# Altium integrated library Analog Devices Data Converters Digital-to-Analog Converters.IntLib: 2231 symbols (part 110 of 181)
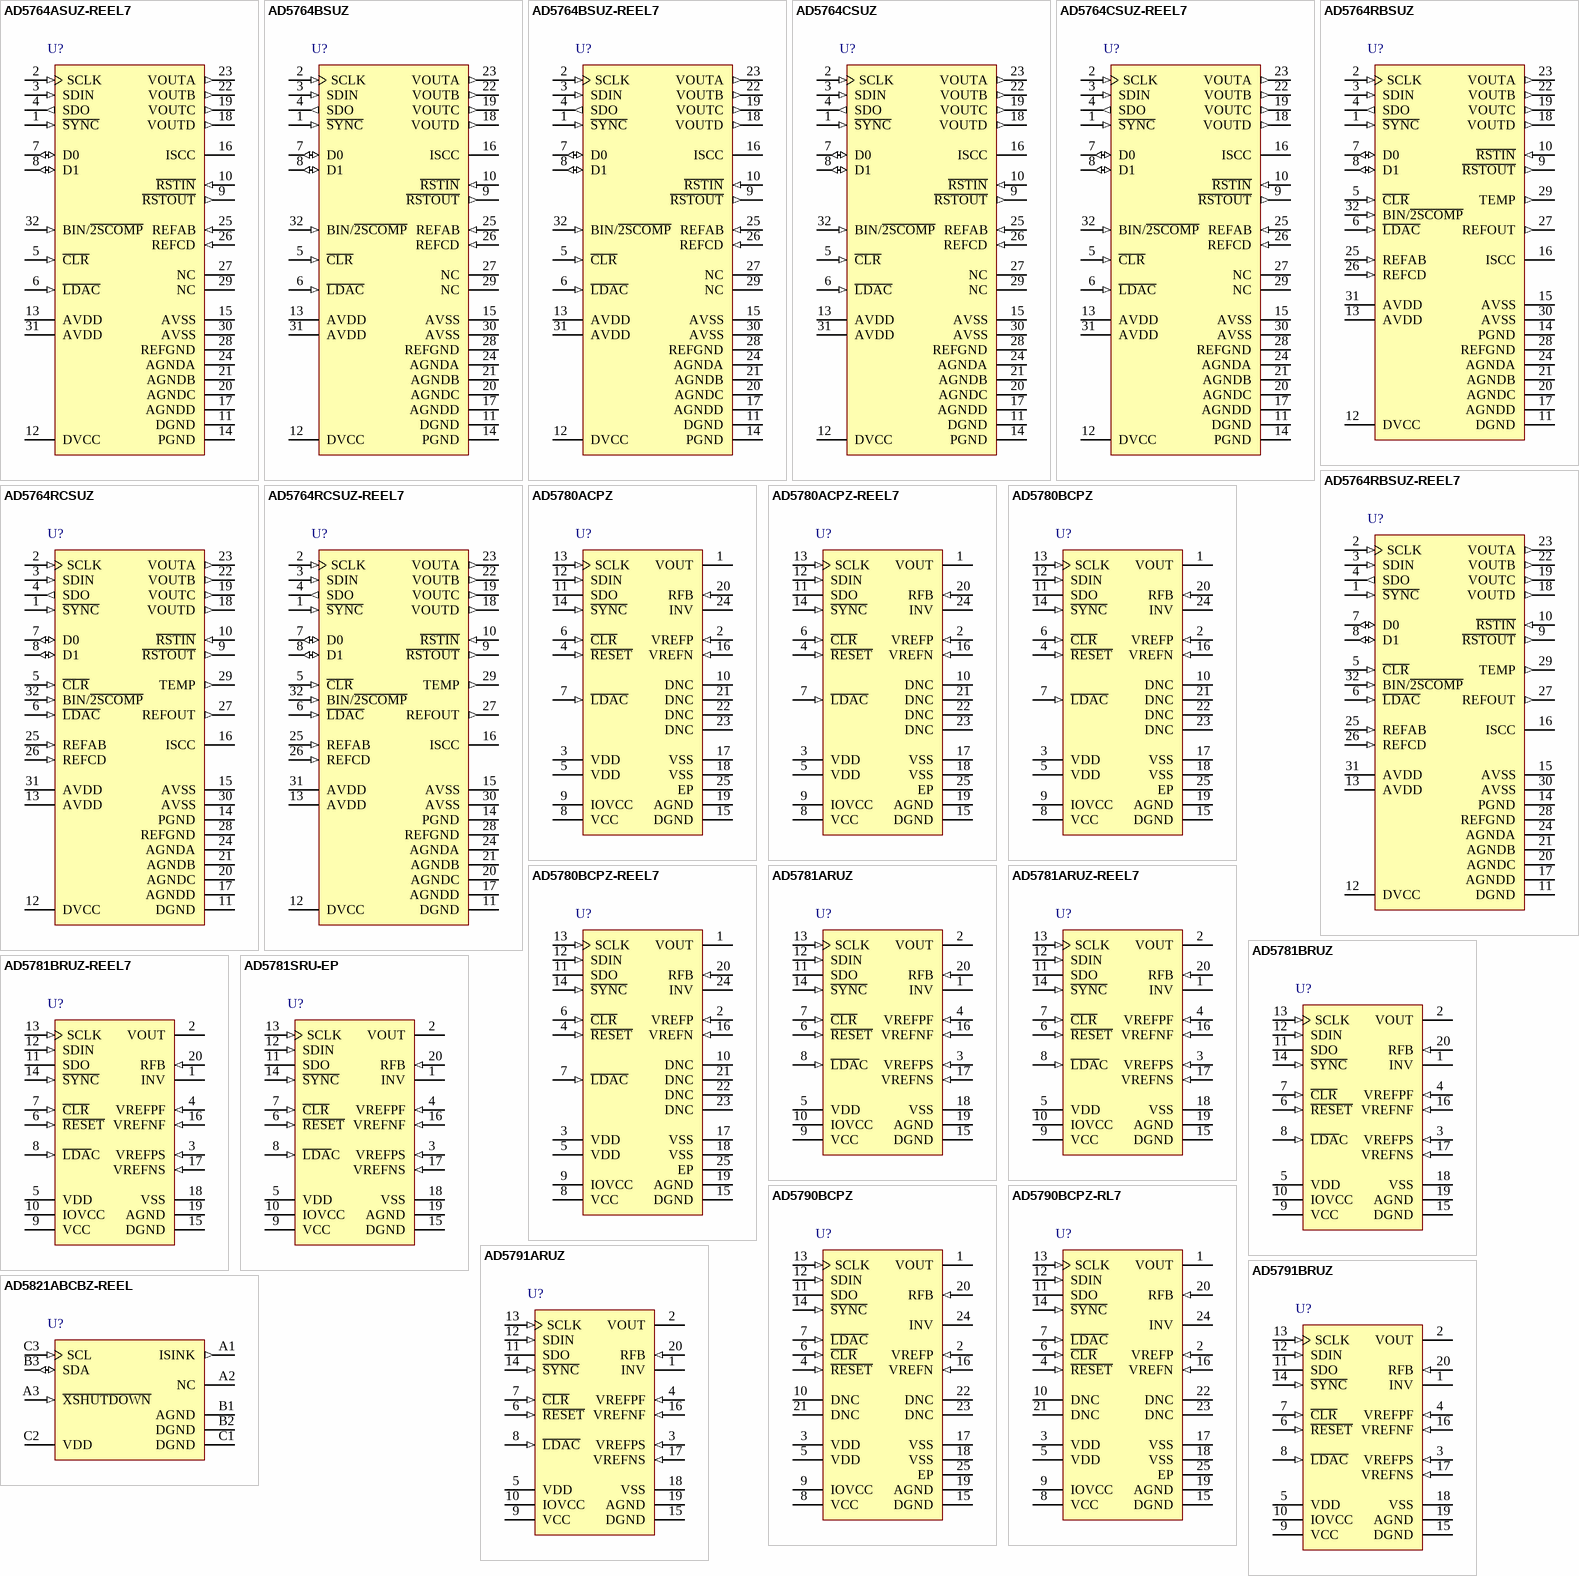
[diagram p223: symbols AD5764ASUZ-REEL7 to AD5821ABCBZ-REEL]

## AD5764RCSUZ
designator U?
16-Bit Bipolar Voltage Output Digital-to-Analog Converter with Serial Interface, -40 to +85 degC, SU-32-2, Pb-Free, Tray; Generic Part Number: AD5764R; Manufacturer: Analog Devices; PartNumber: AD5764RCSUZ; # DAC Outputs: 4; Max V+: 16.5V; Op Pwr Diss: 275mW; Resolution (Bits): 16; Settling Time: 8µs; Single Supply: No; DatasheetVersion: Rev.D; PackageVersion: 2004; PackageReference: SU-32-2; PackageDescription: 32-Lead Thin Plastic Quad Flat Package [TQFP]; Supplier 1: Digi-Key; Supplier Part Number 1: AD5764RCSUZ-ND; Supplier 2: Newark; Supplier Part Number 2: 34P3178; Supplier 3: Mouser; Supplier Part Number 3: 584-AD5764RCSUZ; Packing: Tray; RoHS: Y; Mounting Technology: Surface Mount; Code_JEDEC: MS-026-ABA; ComponentLink1Description: Manufacturer URL; ComponentLink1URL: http://www.analog.com/en/index.html; ComponentLink2Description: Datasheet; ComponentLink2URL: http://www.analog.com/static/imported-files/data_sheets/AD5764R.pdf; ComponentLink3Description: Package Specification; ComponentLink3URL: http://www.analog.com/static/imported-files/packages/6298531260360306615SU_32_2.pdf; ComponentLink4Description: Product URL; ComponentLink4URL: http://www.analog.com/en/digital-to-analog-converters/da-converters/ad5764r/products/product.html
footprint SU-32-2_N (Thin QFP, 32-Leads, Body 7x7mm, Pitch 0.8mm, IPC Medium Density)
footprint SU-32-2_L (Thin QFP, 32-Leads, Body 7x7mm, Pitch 0.8mm, IPC High Density)
footprint SU-32-2_M (Thin QFP, 32-Leads, Body 7x7mm, Pitch 0.8mm, IPC Low Density)
pins: 1 ~{SYNC} (in) "Active Low Input. This is the frame synchronization signal for the serial interface. While S\Y\N\C\ is low, data is transferred in on the falling edge of SCLK.", 2 SCLK (in) "Serial Clock Input. Data is clocked into the input shift register on the falling edge of SCLK. This operates at clock speeds of up to 30 MHz.", 3 SDIN (in) "Serial Data Input. Data must be valid on the falling edge of SCLK.", 4 SDO (out) "Serial Data Output. This pin is used to clock data from the serial register in daisy-chain or readback mode.", 5 ~{CLR} (in) "Negative Edge Triggered Input.1 Asserting this pin sets the data registers to 0x0000.", 6 ~{LDAC} (in) "Load DAC. This logic input is used to update the data registers and, consequently, the analog outputs. When tied permanently low, the addressed data register is updated on the rising edge of S\Y\N\C\. If L\D\A\C\ is held (See Datasheet)", 7 D0 (io) "Digital I/O Port. D0 form a digital I/O port. The user can set up these pins as inputs or outputs that are configurable and readable over the serial interface. When configured as inputs, these pins have weak internal (See Datasheet)", 8 D1 (io) "Digital I/O Port. D1 form a digital I/O port. The user can set up these pins as inputs or outputs that are configurable and readable over the serial interface. When configured as inputs, these pins have weak internal (See Datasheet)", 9 ~{RSTOUT} (out) "Reset Logic Output. This is the output from the on-chip voltage monitor used in the reset circuit. If desired, it can be used to control other system components.", 10 ~{RSTIN} (in) "Reset Logic Input. This input allows external access to the internal reset logic. Applying a Logic 0 to this input clamps the DAC outputs to 0 V. In normal operation, R\S\T\I\N\ should be tied to Logic 1. Register values (See Datasheet)", 11 DGND (power) "Digital Ground Pin.", 12 DVCC (power) "Digital Supply Pin. Voltage ranges from 2.7 V to 5.25 V.", 13 AVDD (power) "Positive Analog Supply Pins. Voltage ranges from 11.4 V to 16.5 V.", 14 PGND (power) "Ground Reference Point for Analog Circuitry.", 15 AVSS (power) "Negative Analog Supply Pins. Voltage ranges from -11.4 V to -16.5 V.", 16 ISCC "This pin is used in association with an optional external resistor to AGND to program the short-circuit current of the output amplifiers. Refer to the Design Features section for more information.", 17 AGNDD (power) "Ground Reference Pin for DAC D Output Amplifier.", 18 VOUTD (out) "Analog Output Voltage of DAC D. Buffered output with a nominal full-scale output range of +/-10 V. The output amplifier is capable of directly driving a 10 kohm, 200 pF load.", 19 VOUTC (out) "Analog Output Voltage of DAC C. Buffered output with a nominal full-scale output range of +/-10 V. The output amplifier is capable of directly driving a 10 kohm, 200 pF load.", 20 AGNDC (power) "Ground Reference Pin for DAC C Output Amplifier.", 21 AGNDB (power) "Ground Reference Pin for DAC B Output Amplifier.", 22 VOUTB (out) "Analog Output Voltage of DAC B. Buffered output with a nominal full-scale output range of +/-10 V. The output amplifier is capable of directly driving a 10 kohm, 200 pF load.", 23 VOUTA (out) "Analog Output Voltage of DAC A. Buffered output with a nominal full-scale output range of +/-10 V. The output amplifier is capable of directly driving a 10 kohm, 200 pF load.", 24 AGNDA (power) "Ground Reference Pin for DAC A Output Amplifier.", 25 REFAB (in) "External Reference Voltage Input for Channel A and Channel B. The reference input range is 1 V to 7 V, and it programs the full-scale output voltage. VREFIN = 5 V for specified performance.", 26 REFCD (in) "External Reference Voltage Input for Channel C and Channel D. The reference input range is 1 V to 7 V, and it programs the full-scale output voltage. VREFIN = 5 V for specified performance.", 27 REFOUT (out) "Reference Output. This is the reference output from the internal voltage reference. The internal reference is 5 V +/- 3 mV at 25 degC, with a reference temperature coefficient of 10 ppm/degC.", 28 REFGND (power) "Reference Ground Return for the Reference Generator and Buffers.", 29 TEMP (out) "This pin provides an output voltage proportional to temperature. The output voltage is 1.47 V typical at 25 degC die temperature; variation with temperature is 5 mV/degC.", 30 AVSS (power) "Negative Analog Supply Pins. Voltage ranges from -11.4 V to -16.5 V.", 31 AVDD (power) "Positive Analog Supply Pins. Voltage ranges from 11.4 V to 16.5 V.", 32 BIN/~{2SCOMP} (in) "This pin determines the DAC coding. This pin should be hardwired to either DVCC or DGND. When hardwired to DVCC, input coding is offset binary (see Table 7). When hardwired to DGND, input coding is twos complement (see Table (See Datasheet)"

## AD5764RCSUZ-REEL7
designator U?
16-Bit Bipolar Voltage Output Digital-to-Analog Converter with Serial Interface, -40 to +85 degC, SU-32-2, Pb-Free, Reel; Generic Part Number: AD5764R; Manufacturer: Analog Devices; PartNumber: AD5764RCSUZ-REEL7; # DAC Outputs: 4; Max V+: 16.5V; Op Pwr Diss: 275mW; Resolution (Bits): 16; Settling Time: 8µs; Single Supply: No; DatasheetVersion: Rev.D; PackageVersion: 2004; PackageReference: SU-32-2; PackageDescription: 32-Lead Thin Plastic Quad Flat Package [TQFP]; Supplier 1: Digi-Key; Supplier Part Number 1: AD5764RCSUZ-REEL7-ND; Supplier 2: Mouser; Supplier Part Number 2: 584-AD5764RCSUZ-R7; Packing: Reel; RoHS: Y; Mounting Technology: Surface Mount; Code_JEDEC: MS-026-ABA; ComponentLink1Description: Manufacturer URL; ComponentLink1URL: http://www.analog.com/en/index.html; ComponentLink2Description: Datasheet; ComponentLink2URL: http://www.analog.com/static/imported-files/data_sheets/AD5764R.pdf; ComponentLink3Description: Package Specification; ComponentLink3URL: http://www.analog.com/static/imported-files/packages/6298531260360306615SU_32_2.pdf; ComponentLink4Description: Product URL; ComponentLink4URL: http://www.analog.com/en/digital-to-analog-converters/da-converters/ad5764r/products/product.html
footprint SU-32-2_N (Thin QFP, 32-Leads, Body 7x7mm, Pitch 0.8mm, IPC Medium Density)
footprint SU-32-2_L (Thin QFP, 32-Leads, Body 7x7mm, Pitch 0.8mm, IPC High Density)
footprint SU-32-2_M (Thin QFP, 32-Leads, Body 7x7mm, Pitch 0.8mm, IPC Low Density)
pins: 1 ~{SYNC} (in) "Active Low Input. This is the frame synchronization signal for the serial interface. While S\Y\N\C\ is low, data is transferred in on the falling edge of SCLK.", 2 SCLK (in) "Serial Clock Input. Data is clocked into the input shift register on the falling edge of SCLK. This operates at clock speeds of up to 30 MHz.", 3 SDIN (in) "Serial Data Input. Data must be valid on the falling edge of SCLK.", 4 SDO (out) "Serial Data Output. This pin is used to clock data from the serial register in daisy-chain or readback mode.", 5 ~{CLR} (in) "Negative Edge Triggered Input.1 Asserting this pin sets the data registers to 0x0000.", 6 ~{LDAC} (in) "Load DAC. This logic input is used to update the data registers and, consequently, the analog outputs. When tied permanently low, the addressed data register is updated on the rising edge of S\Y\N\C\. If L\D\A\C\ is held (See Datasheet)", 7 D0 (io) "Digital I/O Port. D0 form a digital I/O port. The user can set up these pins as inputs or outputs that are configurable and readable over the serial interface. When configured as inputs, these pins have weak internal (See Datasheet)", 8 D1 (io) "Digital I/O Port. D1 form a digital I/O port. The user can set up these pins as inputs or outputs that are configurable and readable over the serial interface. When configured as inputs, these pins have weak internal (See Datasheet)", 9 ~{RSTOUT} (out) "Reset Logic Output. This is the output from the on-chip voltage monitor used in the reset circuit. If desired, it can be used to control other system components.", 10 ~{RSTIN} (in) "Reset Logic Input. This input allows external access to the internal reset logic. Applying a Logic 0 to this input clamps the DAC outputs to 0 V. In normal operation, R\S\T\I\N\ should be tied to Logic 1. Register values (See Datasheet)", 11 DGND (power) "Digital Ground Pin.", 12 DVCC (power) "Digital Supply Pin. Voltage ranges from 2.7 V to 5.25 V.", 13 AVDD (power) "Positive Analog Supply Pins. Voltage ranges from 11.4 V to 16.5 V.", 14 PGND (power) "Ground Reference Point for Analog Circuitry.", 15 AVSS (power) "Negative Analog Supply Pins. Voltage ranges from -11.4 V to -16.5 V.", 16 ISCC "This pin is used in association with an optional external resistor to AGND to program the short-circuit current of the output amplifiers. Refer to the Design Features section for more information.", 17 AGNDD (power) "Ground Reference Pin for DAC D Output Amplifier.", 18 VOUTD (out) "Analog Output Voltage of DAC D. Buffered output with a nominal full-scale output range of +/-10 V. The output amplifier is capable of directly driving a 10 kohm, 200 pF load.", 19 VOUTC (out) "Analog Output Voltage of DAC C. Buffered output with a nominal full-scale output range of +/-10 V. The output amplifier is capable of directly driving a 10 kohm, 200 pF load.", 20 AGNDC (power) "Ground Reference Pin for DAC C Output Amplifier.", 21 AGNDB (power) "Ground Reference Pin for DAC B Output Amplifier.", 22 VOUTB (out) "Analog Output Voltage of DAC B. Buffered output with a nominal full-scale output range of +/-10 V. The output amplifier is capable of directly driving a 10 kohm, 200 pF load.", 23 VOUTA (out) "Analog Output Voltage of DAC A. Buffered output with a nominal full-scale output range of +/-10 V. The output amplifier is capable of directly driving a 10 kohm, 200 pF load.", 24 AGNDA (power) "Ground Reference Pin for DAC A Output Amplifier.", 25 REFAB (in) "External Reference Voltage Input for Channel A and Channel B. The reference input range is 1 V to 7 V, and it programs the full-scale output voltage. VREFIN = 5 V for specified performance.", 26 REFCD (in) "External Reference Voltage Input for Channel C and Channel D. The reference input range is 1 V to 7 V, and it programs the full-scale output voltage. VREFIN = 5 V for specified performance.", 27 REFOUT (out) "Reference Output. This is the reference output from the internal voltage reference. The internal reference is 5 V +/- 3 mV at 25 degC, with a reference temperature coefficient of 10 ppm/degC.", 28 REFGND (power) "Reference Ground Return for the Reference Generator and Buffers.", 29 TEMP (out) "This pin provides an output voltage proportional to temperature. The output voltage is 1.47 V typical at 25 degC die temperature; variation with temperature is 5 mV/degC.", 30 AVSS (power) "Negative Analog Supply Pins. Voltage ranges from -11.4 V to -16.5 V.", 31 AVDD (power) "Positive Analog Supply Pins. Voltage ranges from 11.4 V to 16.5 V.", 32 BIN/~{2SCOMP} (in) "This pin determines the DAC coding. This pin should be hardwired to either DVCC or DGND. When hardwired to DVCC, input coding is offset binary (see Table 7). When hardwired to DGND, input coding is twos complement (see Table (See Datasheet)"

## AD5780ACPZ
designator U?
Single 18-Bit System Ready Voltage Output Digital-to-Analog Converter, + / -1 LSB INL, -40 to +125 degC, CP-24-5, Pb-Free, Tray; Generic Part Number: AD5780; Manufacturer: Analog Devices; PartNumber: AD5780ACPZ; # DAC Outputs: 1; Max V+: 16.5V; Resolution (Bits): 18; Settling Time: 2.5µs; Single Supply: No; DatasheetVersion: Rev.C; PackageVersion: 04-11-2012-B; PackageReference: CP-24-5; PackageDescription: 24-Lead Lead Frame Chip Scale Package [LFCSP_VQ] 4 x 5 mm Body, Very Thin Quad; Supplier 1: Digi-Key; Supplier Part Number 1: AD5780ACPZ-ND; Supplier 2: Farnell; Supplier Part Number 2: 2077686; Supplier 3: Newark; Supplier Part Number 3: 76T1804; Supplier 4: Mouser; Supplier Part Number 4: 584-AD5780ACPZ; Packing: Tray; RoHS: Y; Mounting Technology: Surface Mount; ComponentLink1Description: Manufacturer URL; ComponentLink1URL: http://www.analog.com/en/index.html; ComponentLink2Description: Datasheet; ComponentLink2URL: http://www.analog.com/static/imported-files/data_sheets/AD5780.pdf; ComponentLink3Description: Package Specification; ComponentLink3URL: http://www.analog.com/static/imported-files/packages/PKG_PDF/LFCSP(CP)/CP_24_5.pdf; ComponentLink4Description: Product URL; ComponentLink4URL: http://www.analog.com/en/digital-to-analog-converters/da-converters/ad5780/products/product.html
footprint CP-24-5_N (QFN, 24-Leads, Body 4x5mm, Pitch 0.5mm, Thermal Pad 2.65x3.65mm, IPC Medium Density)
footprint CP-24-5_L (QFN, 24-Leads, Body 4x5mm, Pitch 0.5mm, Thermal Pad 2.65x3.65mm, IPC High Density)
footprint CP-24-5_M (QFN, 24-Leads, Body 4x5mm, Pitch 0.5mm, Thermal Pad 2.65x3.65mm, IPC Low Density)
pins: 1 VOUT (hiz) "Analog Output Voltage.", 2 VREFP (in) "Positive Reference Voltage Input. A voltage in the range of 5 V to VDD - 2.5 V can be connected to this pin.", 3 VDD (power) "Positive Analog Supply Connection. A voltage in the range of 7.5 V to 16.5 V can be connected to this pin. VDD must be decoupled to AGND.", 4 ~{RESET} (in) "Active Low Reset. Asserting this pin returns the AD5780 to its power-on status.", 5 VDD (power) "Positive Analog Supply Connection. A voltage in the range of 7.5 V to 16.5 V can be connected to this pin. VDD must be decoupled to AGND.", 6 ~{CLR} (in) "Active Low Input. Asserting this pin sets the DAC register to a user defined value (see Table 12) and updates the DAC output. The output value depends on the DAC register coding that is being used, either binary or twos (See Datasheet)", 7 ~{LDAC} (in) "Active Low Load DAC Logic Input. This pin is used to update the DAC register and, consequently, the analog output. When tied permanently low, the output is updated on the rising edge of S\Y\N\C\. If L\D\A\C\ is held high (See Datasheet)", 8 VCC (power) "Digital Supply. Voltage range is from 2.7 V to 5.5 V. VCC should be decoupled to DGND.", 9 IOVCC (power) "Digital Interface Supply. Digital threshold levels are referenced to the voltage applied to this pin. Voltage range is from 1.71 V to 5.5 V.", 10 DNC "Do Not Connect. Do not connect to these pins.", 11 SDO (hiz) "Serial Data Output.", 12 SDIN (in) "Serial Data Input. This device has a 24-bit input shift register. Data is clocked into the register on the falling edge of the serial clock input.", 13 SCLK (in) "Serial Clock Input. Data is clocked into the input shift register on the falling edge of the serial clock input. Data can be transferred at rates of up to 35 MHz.", 14 ~{SYNC} (in) "Level Triggered Control Input (Active Low). This is the frame synchronization signal for the input data. When S\Y\N\C\ goes low, it enables the input shift register, and data is then transferred in on the falling edges of (See Datasheet)", 15 DGND (power) "Ground Reference Pin for Digital Circuitry.", 16 VREFN (in) "Negative Reference Voltage Input.", 17 VSS (power) "Negative Analog Supply Connection. A voltage in the range of -16.5 V to -2.5 V can be connected to this pin. VSS must be decoupled to AGND.", 18 VSS (power) "Negative Analog Supply Connection. A voltage in the range of -16.5 V to -2.5 V can be connected to this pin. VSS must be decoupled to AGND.", 19 AGND (power) "Ground Reference Pin for Analog Circuitry.", 20 RFB (in) "Feedback Connection for External Amplifier. See the AD5780 Features section for further details.", 21 DNC "Do Not Connect. Do not connect to these pins.", 22 DNC "Do Not Connect. Do not connect to these pins.", 23 DNC "Do Not Connect. Do not connect to these pins.", 24 INV "Inverting Input Connection for External Amplifier. See the AD5780 Features section for further details.", 25 EP (power) "Negative Analog Supply Connection (VSS). A voltage in the range of -16.5 V to -2.5 V can be connected to this pin. VSS must be decoupled to AGND. The paddle can be left electrically unconnected provided that a supply (See Datasheet)"

## AD5780ACPZ-REEL7
designator U?
Single 18-Bit System Ready Voltage Output Digital-to-Analog Converter, + / -1 LSB INL, -40 to +125 degC, CP-24-5, Pb-Free, Reel; Generic Part Number: AD5780; Manufacturer: Analog Devices; PartNumber: AD5780ACPZ-REEL7; # DAC Outputs: 1; Max V+: 16.5V; Resolution (Bits): 18; Settling Time: 2.5µs; Single Supply: No; DatasheetVersion: Rev.C; PackageVersion: 04-11-2012-B; PackageReference: CP-24-5; PackageDescription: 24-Lead Lead Frame Chip Scale Package [LFCSP_VQ] 4 x 5 mm Body, Very Thin Quad; Supplier 1: Digi-Key; Supplier Part Number 1: AD5780ACPZ-REEL7-ND; Supplier 2: Mouser; Supplier Part Number 2: 584-AD5780ACPZ-R7; Packing: Reel; RoHS: Y; Mounting Technology: Surface Mount; ComponentLink1Description: Manufacturer URL; ComponentLink1URL: http://www.analog.com/en/index.html; ComponentLink2Description: Datasheet; ComponentLink2URL: http://www.analog.com/static/imported-files/data_sheets/AD5780.pdf; ComponentLink3Description: Package Specification; ComponentLink3URL: http://www.analog.com/static/imported-files/packages/PKG_PDF/LFCSP(CP)/CP_24_5.pdf; ComponentLink4Description: Product URL; ComponentLink4URL: http://www.analog.com/en/digital-to-analog-converters/da-converters/ad5780/products/product.html
footprint CP-24-5_N (QFN, 24-Leads, Body 4x5mm, Pitch 0.5mm, Thermal Pad 2.65x3.65mm, IPC Medium Density)
footprint CP-24-5_L (QFN, 24-Leads, Body 4x5mm, Pitch 0.5mm, Thermal Pad 2.65x3.65mm, IPC High Density)
footprint CP-24-5_M (QFN, 24-Leads, Body 4x5mm, Pitch 0.5mm, Thermal Pad 2.65x3.65mm, IPC Low Density)
pins: 1 VOUT (hiz) "Analog Output Voltage.", 2 VREFP (in) "Positive Reference Voltage Input. A voltage in the range of 5 V to VDD - 2.5 V can be connected to this pin.", 3 VDD (power) "Positive Analog Supply Connection. A voltage in the range of 7.5 V to 16.5 V can be connected to this pin. VDD must be decoupled to AGND.", 4 ~{RESET} (in) "Active Low Reset. Asserting this pin returns the AD5780 to its power-on status.", 5 VDD (power) "Positive Analog Supply Connection. A voltage in the range of 7.5 V to 16.5 V can be connected to this pin. VDD must be decoupled to AGND.", 6 ~{CLR} (in) "Active Low Input. Asserting this pin sets the DAC register to a user defined value (see Table 12) and updates the DAC output. The output value depends on the DAC register coding that is being used, either binary or twos (See Datasheet)", 7 ~{LDAC} (in) "Active Low Load DAC Logic Input. This pin is used to update the DAC register and, consequently, the analog output. When tied permanently low, the output is updated on the rising edge of S\Y\N\C\. If L\D\A\C\ is held high (See Datasheet)", 8 VCC (power) "Digital Supply. Voltage range is from 2.7 V to 5.5 V. VCC should be decoupled to DGND.", 9 IOVCC (power) "Digital Interface Supply. Digital threshold levels are referenced to the voltage applied to this pin. Voltage range is from 1.71 V to 5.5 V.", 10 DNC "Do Not Connect. Do not connect to these pins.", 11 SDO (hiz) "Serial Data Output.", 12 SDIN (in) "Serial Data Input. This device has a 24-bit input shift register. Data is clocked into the register on the falling edge of the serial clock input.", 13 SCLK (in) "Serial Clock Input. Data is clocked into the input shift register on the falling edge of the serial clock input. Data can be transferred at rates of up to 35 MHz.", 14 ~{SYNC} (in) "Level Triggered Control Input (Active Low). This is the frame synchronization signal for the input data. When S\Y\N\C\ goes low, it enables the input shift register, and data is then transferred in on the falling edges of (See Datasheet)", 15 DGND (power) "Ground Reference Pin for Digital Circuitry.", 16 VREFN (in) "Negative Reference Voltage Input.", 17 VSS (power) "Negative Analog Supply Connection. A voltage in the range of -16.5 V to -2.5 V can be connected to this pin. VSS must be decoupled to AGND.", 18 VSS (power) "Negative Analog Supply Connection. A voltage in the range of -16.5 V to -2.5 V can be connected to this pin. VSS must be decoupled to AGND.", 19 AGND (power) "Ground Reference Pin for Analog Circuitry.", 20 RFB (in) "Feedback Connection for External Amplifier. See the AD5780 Features section for further details.", 21 DNC "Do Not Connect. Do not connect to these pins.", 22 DNC "Do Not Connect. Do not connect to these pins.", 23 DNC "Do Not Connect. Do not connect to these pins.", 24 INV "Inverting Input Connection for External Amplifier. See the AD5780 Features section for further details.", 25 EP (power) "Negative Analog Supply Connection (VSS). A voltage in the range of -16.5 V to -2.5 V can be connected to this pin. VSS must be decoupled to AGND. The paddle can be left electrically unconnected provided that a supply (See Datasheet)"

## AD5780BCPZ
designator U?
Single 18-Bit System Ready Voltage Output Digital-to-Analog Converter, + / -1 LSB INL, -40 to +125 degC, CP-24-5, Pb-Free, Tray; Generic Part Number: AD5780; Manufacturer: Analog Devices; PartNumber: AD5780BCPZ; # DAC Outputs: 1; Max V+: 16.5V; Resolution (Bits): 18; Settling Time: 2.5µs; Single Supply: No; DatasheetVersion: Rev.C; PackageVersion: 04-11-2012-B; PackageReference: CP-24-5; PackageDescription: 24-Lead Lead Frame Chip Scale Package [LFCSP_VQ] 4 x 5 mm Body, Very Thin Quad; Supplier 1: Digi-Key; Supplier Part Number 1: AD5780BCPZ-ND; Supplier 2: Farnell; Supplier Part Number 2: 2077687; Supplier 3: Newark; Supplier Part Number 3: 76T1806; Supplier 4: Mouser; Supplier Part Number 4: 584-AD5780BCPZ; Packing: Tray; RoHS: Y; Mounting Technology: Surface Mount; ComponentLink1Description: Manufacturer URL; ComponentLink1URL: http://www.analog.com/en/index.html; ComponentLink2Description: Datasheet; ComponentLink2URL: http://www.analog.com/static/imported-files/data_sheets/AD5780.pdf; ComponentLink3Description: Package Specification; ComponentLink3URL: http://www.analog.com/static/imported-files/packages/PKG_PDF/LFCSP(CP)/CP_24_5.pdf; ComponentLink4Description: Product URL; ComponentLink4URL: http://www.analog.com/en/digital-to-analog-converters/da-converters/ad5780/products/product.html
footprint CP-24-5_N (QFN, 24-Leads, Body 4x5mm, Pitch 0.5mm, Thermal Pad 2.65x3.65mm, IPC Medium Density)
footprint CP-24-5_L (QFN, 24-Leads, Body 4x5mm, Pitch 0.5mm, Thermal Pad 2.65x3.65mm, IPC High Density)
footprint CP-24-5_M (QFN, 24-Leads, Body 4x5mm, Pitch 0.5mm, Thermal Pad 2.65x3.65mm, IPC Low Density)
pins: 1 VOUT (hiz) "Analog Output Voltage.", 2 VREFP (in) "Positive Reference Voltage Input. A voltage in the range of 5 V to VDD - 2.5 V can be connected to this pin.", 3 VDD (power) "Positive Analog Supply Connection. A voltage in the range of 7.5 V to 16.5 V can be connected to this pin. VDD must be decoupled to AGND.", 4 ~{RESET} (in) "Active Low Reset. Asserting this pin returns the AD5780 to its power-on status.", 5 VDD (power) "Positive Analog Supply Connection. A voltage in the range of 7.5 V to 16.5 V can be connected to this pin. VDD must be decoupled to AGND.", 6 ~{CLR} (in) "Active Low Input. Asserting this pin sets the DAC register to a user defined value (see Table 12) and updates the DAC output. The output value depends on the DAC register coding that is being used, either binary or twos (See Datasheet)", 7 ~{LDAC} (in) "Active Low Load DAC Logic Input. This pin is used to update the DAC register and, consequently, the analog output. When tied permanently low, the output is updated on the rising edge of S\Y\N\C\. If L\D\A\C\ is held high (See Datasheet)", 8 VCC (power) "Digital Supply. Voltage range is from 2.7 V to 5.5 V. VCC should be decoupled to DGND.", 9 IOVCC (power) "Digital Interface Supply. Digital threshold levels are referenced to the voltage applied to this pin. Voltage range is from 1.71 V to 5.5 V.", 10 DNC "Do Not Connect. Do not connect to these pins.", 11 SDO (hiz) "Serial Data Output.", 12 SDIN (in) "Serial Data Input. This device has a 24-bit input shift register. Data is clocked into the register on the falling edge of the serial clock input.", 13 SCLK (in) "Serial Clock Input. Data is clocked into the input shift register on the falling edge of the serial clock input. Data can be transferred at rates of up to 35 MHz.", 14 ~{SYNC} (in) "Level Triggered Control Input (Active Low). This is the frame synchronization signal for the input data. When S\Y\N\C\ goes low, it enables the input shift register, and data is then transferred in on the falling edges of (See Datasheet)", 15 DGND (power) "Ground Reference Pin for Digital Circuitry.", 16 VREFN (in) "Negative Reference Voltage Input.", 17 VSS (power) "Negative Analog Supply Connection. A voltage in the range of -16.5 V to -2.5 V can be connected to this pin. VSS must be decoupled to AGND.", 18 VSS (power) "Negative Analog Supply Connection. A voltage in the range of -16.5 V to -2.5 V can be connected to this pin. VSS must be decoupled to AGND.", 19 AGND (power) "Ground Reference Pin for Analog Circuitry.", 20 RFB (in) "Feedback Connection for External Amplifier. See the AD5780 Features section for further details.", 21 DNC "Do Not Connect. Do not connect to these pins.", 22 DNC "Do Not Connect. Do not connect to these pins.", 23 DNC "Do Not Connect. Do not connect to these pins.", 24 INV "Inverting Input Connection for External Amplifier. See the AD5780 Features section for further details.", 25 EP (power) "Negative Analog Supply Connection (VSS). A voltage in the range of -16.5 V to -2.5 V can be connected to this pin. VSS must be decoupled to AGND. The paddle can be left electrically unconnected provided that a supply (See Datasheet)"

## AD5780BCPZ-REEL7
designator U?
Single 8-Bit System Ready Voltage Output Digital-to-Analog Converter, + / -1 LSB INL, -40 to +125 degC, CP-24-5, Pb-Free, Reel; Generic Part Number: AD5780; Manufacturer: Analog Devices; PartNumber: AD5780BCPZ-REEL7; # DAC Outputs: 1; Max V+: 16.5V; Resolution (Bits): 18; Settling Time: 2.5µs; Single Supply: No; DatasheetVersion: Rev.C; PackageVersion: 04-11-2012-B; PackageReference: CP-24-5; PackageDescription: 24-Lead Lead Frame Chip Scale Package [LFCSP_VQ] 4 x 5 mm Body, Very Thin Quad; Supplier 1: Digi-Key; Supplier Part Number 1: AD5780BCPZ-REEL7-ND; Supplier 2: Mouser; Supplier Part Number 2: 584-AD5780BCPZ-R7; Packing: Reel; RoHS: Y; Mounting Technology: Surface Mount; ComponentLink1Description: Manufacturer URL; ComponentLink1URL: http://www.analog.com/en/index.html; ComponentLink2Description: Datasheet; ComponentLink2URL: http://www.analog.com/static/imported-files/data_sheets/AD5780.pdf; ComponentLink3Description: Package Specification; ComponentLink3URL: http://www.analog.com/static/imported-files/packages/PKG_PDF/LFCSP(CP)/CP_24_5.pdf; ComponentLink4Description: Product URL; ComponentLink4URL: http://www.analog.com/en/digital-to-analog-converters/da-converters/ad5780/products/product.html
footprint CP-24-5_N (QFN, 24-Leads, Body 4x5mm, Pitch 0.5mm, Thermal Pad 2.65x3.65mm, IPC Medium Density)
footprint CP-24-5_L (QFN, 24-Leads, Body 4x5mm, Pitch 0.5mm, Thermal Pad 2.65x3.65mm, IPC High Density)
footprint CP-24-5_M (QFN, 24-Leads, Body 4x5mm, Pitch 0.5mm, Thermal Pad 2.65x3.65mm, IPC Low Density)
pins: 1 VOUT (hiz) "Analog Output Voltage.", 2 VREFP (in) "Positive Reference Voltage Input. A voltage in the range of 5 V to VDD - 2.5 V can be connected to this pin.", 3 VDD (power) "Positive Analog Supply Connection. A voltage in the range of 7.5 V to 16.5 V can be connected to this pin. VDD must be decoupled to AGND.", 4 ~{RESET} (in) "Active Low Reset. Asserting this pin returns the AD5780 to its power-on status.", 5 VDD (power) "Positive Analog Supply Connection. A voltage in the range of 7.5 V to 16.5 V can be connected to this pin. VDD must be decoupled to AGND.", 6 ~{CLR} (in) "Active Low Input. Asserting this pin sets the DAC register to a user defined value (see Table 12) and updates the DAC output. The output value depends on the DAC register coding that is being used, either binary or twos (See Datasheet)", 7 ~{LDAC} (in) "Active Low Load DAC Logic Input. This pin is used to update the DAC register and, consequently, the analog output. When tied permanently low, the output is updated on the rising edge of S\Y\N\C\. If L\D\A\C\ is held high (See Datasheet)", 8 VCC (power) "Digital Supply. Voltage range is from 2.7 V to 5.5 V. VCC should be decoupled to DGND.", 9 IOVCC (power) "Digital Interface Supply. Digital threshold levels are referenced to the voltage applied to this pin. Voltage range is from 1.71 V to 5.5 V.", 10 DNC "Do Not Connect. Do not connect to these pins.", 11 SDO (hiz) "Serial Data Output.", 12 SDIN (in) "Serial Data Input. This device has a 24-bit input shift register. Data is clocked into the register on the falling edge of the serial clock input.", 13 SCLK (in) "Serial Clock Input. Data is clocked into the input shift register on the falling edge of the serial clock input. Data can be transferred at rates of up to 35 MHz.", 14 ~{SYNC} (in) "Level Triggered Control Input (Active Low). This is the frame synchronization signal for the input data. When S\Y\N\C\ goes low, it enables the input shift register, and data is then transferred in on the falling edges of (See Datasheet)", 15 DGND (power) "Ground Reference Pin for Digital Circuitry.", 16 VREFN (in) "Negative Reference Voltage Input.", 17 VSS (power) "Negative Analog Supply Connection. A voltage in the range of -16.5 V to -2.5 V can be connected to this pin. VSS must be decoupled to AGND.", 18 VSS (power) "Negative Analog Supply Connection. A voltage in the range of -16.5 V to -2.5 V can be connected to this pin. VSS must be decoupled to AGND.", 19 AGND (power) "Ground Reference Pin for Analog Circuitry.", 20 RFB (in) "Feedback Connection for External Amplifier. See the AD5780 Features section for further details.", 21 DNC "Do Not Connect. Do not connect to these pins.", 22 DNC "Do Not Connect. Do not connect to these pins.", 23 DNC "Do Not Connect. Do not connect to these pins.", 24 INV "Inverting Input Connection for External Amplifier. See the AD5780 Features section for further details.", 25 EP (power) "Negative Analog Supply Connection (VSS). A voltage in the range of -16.5 V to -2.5 V can be connected to this pin. VSS must be decoupled to AGND. The paddle can be left electrically unconnected provided that a supply (See Datasheet)"

## AD5781ARUZ
designator U?
Single 18-Bit Voltage Output Digital-to-Analog Converter, + / -0.5 LSB INL DNL, -40 to +125 degC, RU-20, Pb-Free, Reel; Generic Part Number: AD5781; Manufacturer: Analog Devices; PartNumber: AD5781ARUZ; # DAC Outputs: 1; Max V+: 33V; Op Pwr Diss: 120mW; Packing: Tube; Resolution (Bits): 18; Settling Time: 1µs; Single Supply: No; DatasheetVersion: Rev.C; PackageVersion: 2000; PackageReference: RU-20; PackageDescription: 20-Lead Thin Shrink Small Outline Package [TSSOP]; Supplier 1: Digi-Key; Supplier Part Number 1: AD5781ARUZ-ND; Supplier 2: Farnell; Supplier Part Number 2: 1843652; Supplier 3: Newark; Supplier Part Number 3: 83R9355; Supplier 4: Mouser; Supplier Part Number 4: 584-AD5781ARUZ; RoHS: Y; Mounting Technology: Surface Mount; Code_JEDEC: MO-153AC; ComponentLink1Description: Manufacturer URL; ComponentLink1URL: http://www.analog.com/en/index.html; ComponentLink2Description: Datasheet; ComponentLink2URL: http://www.analog.com/static/imported-files/data_sheets/AD5781.pdf; ComponentLink3Description: Package Specification; ComponentLink3URL: http://www.analog.com/static/imported-files/packages/364515793657813558433715854054607941441RU20.pdf; ComponentLink4Description: Product URL; ComponentLink4URL: http://www.analog.com/en/digital-to-analog-converters/da-converters/ad5781/products/product.html
footprint RU-20_N (TSOP, 20-Leads, Body 6.5x4.4mm, Pitch 0.65mm, IPC Medium Density)
footprint RU-20_L (TSOP, 20-Leads, Body 6.5x4.4mm, Pitch 0.65mm, IPC High Density)
footprint RU-20_M (TSOP, 20-Leads, Body 6.5x4.4mm, Pitch 0.65mm, IPC Low Density)
pins: 1 INV "Connection to Inverting Input of External Amplifier. See the AD5781 Features section for further details.", 2 VOUT (hiz) "Analog Output Voltage.", 3 VREFPS (in) "Positive Reference Sense Voltage Input. A voltage range of 5 V to VDD - 2.5 V can be connected. A unity gain amplifier must be connected at this pin, in conjunction with the VREFPF pin. See the AD5781 Features section for (See Datasheet)", 4 VREFPF (in) "Positive Reference Force Voltage Input. A voltage range of 5 V to VDD - 2.5 V can be connected. A unity gain amplifier must be connected at these pin, in conjunction with the VREFPS pin. See AD5781 Features section for (See Datasheet)", 5 VDD (power) "Positive Analog Supply Connection. A voltage range of 7.5 V to 16.5 V can be connected. VDD should be decoupled to AGND.", 6 ~{RESET} (in) "Active Low Reset Logic Input Pin. Asserting this pin returns the AD5781 to its power-on status.", 7 ~{CLR} (in) "Active Low Clear Logic Input Pin. Asserting this pin sets the DAC register to a user defined value (see Table 13) and updates the DAC output. The output value depends on the DAC register coding that is being used, either (See Datasheet)", 8 ~{LDA}C (in) "Active Low Load DAC Logic Input Pin. This is used to update the DAC register and, consequently, the analog output. When tied permanently low, the output is updated on the rising edge of S\Y\N\C\. If L\D\A\C\ is held high (See Datasheet)", 9 VCC (power) "Digital Supply Connection. A voltage in the range of 2.7 V to 5.5 V can be connected. VCC should be decoupled to DGND.", 10 IOVCC (power) "Digital Interface Supply Pin. Digital threshold levels are referenced to the voltage applied to this pin. A voltage range of 1.71 V to 5.5 V can be connected. IOVCC should not be allowed to exceed VCC.", 11 SDO (hiz) "Serial Data Output Pin. Data is clocked out on the rising edge of the serial clock input.", 12 SDIN (in) "Serial Data Input Pin. This device has a 24-bit shift register. Data is clocked into the register on the falling edge of the serial clock input.", 13 SCLK (in) "Serial Clock Input. Data is clocked into the input shift register on the falling edge of the serial clock input. Data can be transferred at clock rates of up to 35 MHz.", 14 ~{SYNC} (in) "Active Low Digital Interface Synchronization Input Pin. This is the frame synchronization signal for the input data. When S\Y\N\C\ is low, it enables the input shift register, and data is then transferred in on the falling (See Datasheet)", 15 DGND (power) "Ground Reference Pin for Digital Circuitry.", 16 VREFNF (in) "Negative Reference Force Voltage Input. A voltage range of VSS + 2.5 V to 0 V can be connected. A unity gain amplifier must be connected at this pin, in conjunction with the VREFNS pin. See the AD5781 Features section for (See Datasheet)", 17 VREFNS (in) "Negative Reference Sense Voltage Input. A voltage range of VSS + 2.5 V to 0 V can be connected. A unity gain amplifier must be connected at these pin, in conjunction with the VREFNF pin. See the AD5781 Features section for (See Datasheet)", 18 VSS (power) "Negative Analog Supply Connection. A voltage range of -16.5 V to -2.5 V can be connected. VSS should be decoupled to AGND.", 19 AGND (power) "Ground Reference Pin for Analog Circuitry.", 20 RFB (in) "Feedback Connection for External Amplifier. See the AD5781 Features section for further details."

## AD5781ARUZ-REEL7
designator U?
Single 18-Bit Voltage Output Digital-to-Analog Converter, + / -0.5 LSB INL DNL, -40 to +125 degC, RU-20, Pb-Free, Reel; Generic Part Number: AD5781; Manufacturer: Analog Devices; PartNumber: AD5781ARUZ-REEL7; # DAC Outputs: 1; Max V+: 33V; Op Pwr Diss: 120mW; Resolution (Bits): 18; Settling Time: 1µs; Single Supply: No; DatasheetVersion: Rev.C; PackageVersion: 2000; PackageReference: RU-20; PackageDescription: 20-Lead Thin Shrink Small Outline Package [TSSOP]; Supplier 1: Digi-Key; Supplier Part Number 1: AD5781ARUZ-REEL7-ND; Supplier 2: Newark; Supplier Part Number 2: 83R9356; Supplier 3: Mouser; Supplier Part Number 3: 584-AD5781ARUZ-R7; Packing: Reel; RoHS: Y; Mounting Technology: Surface Mount; Code_JEDEC: MO-153AC; ComponentLink1Description: Manufacturer URL; ComponentLink1URL: http://www.analog.com/en/index.html; ComponentLink2Description: Datasheet; ComponentLink2URL: http://www.analog.com/static/imported-files/data_sheets/AD5781.pdf; ComponentLink3Description: Package Specification; ComponentLink3URL: http://www.analog.com/static/imported-files/packages/364515793657813558433715854054607941441RU20.pdf; ComponentLink4Description: Product URL; ComponentLink4URL: http://www.analog.com/en/digital-to-analog-converters/da-converters/ad5781/products/product.html
footprint RU-20_N (TSOP, 20-Leads, Body 6.5x4.4mm, Pitch 0.65mm, IPC Medium Density)
footprint RU-20_L (TSOP, 20-Leads, Body 6.5x4.4mm, Pitch 0.65mm, IPC High Density)
footprint RU-20_M (TSOP, 20-Leads, Body 6.5x4.4mm, Pitch 0.65mm, IPC Low Density)
pins: 1 INV "Connection to Inverting Input of External Amplifier. See the AD5781 Features section for further details.", 2 VOUT (hiz) "Analog Output Voltage.", 3 VREFPS (in) "Positive Reference Sense Voltage Input. A voltage range of 5 V to VDD - 2.5 V can be connected. A unity gain amplifier must be connected at this pin, in conjunction with the VREFPF pin. See the AD5781 Features section for (See Datasheet)", 4 VREFPF (in) "Positive Reference Force Voltage Input. A voltage range of 5 V to VDD - 2.5 V can be connected. A unity gain amplifier must be connected at these pin, in conjunction with the VREFPS pin. See AD5781 Features section for (See Datasheet)", 5 VDD (power) "Positive Analog Supply Connection. A voltage range of 7.5 V to 16.5 V can be connected. VDD should be decoupled to AGND.", 6 ~{RESET} (in) "Active Low Reset Logic Input Pin. Asserting this pin returns the AD5781 to its power-on status.", 7 ~{CLR} (in) "Active Low Clear Logic Input Pin. Asserting this pin sets the DAC register to a user defined value (see Table 13) and updates the DAC output. The output value depends on the DAC register coding that is being used, either (See Datasheet)", 8 ~{LDA}C (in) "Active Low Load DAC Logic Input Pin. This is used to update the DAC register and, consequently, the analog output. When tied permanently low, the output is updated on the rising edge of S\Y\N\C\. If L\D\A\C\ is held high (See Datasheet)", 9 VCC (power) "Digital Supply Connection. A voltage in the range of 2.7 V to 5.5 V can be connected. VCC should be decoupled to DGND.", 10 IOVCC (power) "Digital Interface Supply Pin. Digital threshold levels are referenced to the voltage applied to this pin. A voltage range of 1.71 V to 5.5 V can be connected. IOVCC should not be allowed to exceed VCC.", 11 SDO (hiz) "Serial Data Output Pin. Data is clocked out on the rising edge of the serial clock input.", 12 SDIN (in) "Serial Data Input Pin. This device has a 24-bit shift register. Data is clocked into the register on the falling edge of the serial clock input.", 13 SCLK (in) "Serial Clock Input. Data is clocked into the input shift register on the falling edge of the serial clock input. Data can be transferred at clock rates of up to 35 MHz.", 14 ~{SYNC} (in) "Active Low Digital Interface Synchronization Input Pin. This is the frame synchronization signal for the input data. When S\Y\N\C\ is low, it enables the input shift register, and data is then transferred in on the falling (See Datasheet)", 15 DGND (power) "Ground Reference Pin for Digital Circuitry.", 16 VREFNF (in) "Negative Reference Force Voltage Input. A voltage range of VSS + 2.5 V to 0 V can be connected. A unity gain amplifier must be connected at this pin, in conjunction with the VREFNS pin. See the AD5781 Features section for (See Datasheet)", 17 VREFNS (in) "Negative Reference Sense Voltage Input. A voltage range of VSS + 2.5 V to 0 V can be connected. A unity gain amplifier must be connected at these pin, in conjunction with the VREFNF pin. See the AD5781 Features section for (See Datasheet)", 18 VSS (power) "Negative Analog Supply Connection. A voltage range of -16.5 V to -2.5 V can be connected. VSS should be decoupled to AGND.", 19 AGND (power) "Ground Reference Pin for Analog Circuitry.", 20 RFB (in) "Feedback Connection for External Amplifier. See the AD5781 Features section for further details."

## AD5781BRUZ
designator U?
Single 18-Bit Voltage Output Digital-to-Analog Converter, + / -0.5 LSB INL DNL, -40 to +125 degC, RU-20, Pb-Free, Tube; Generic Part Number: AD5781; Manufacturer: Analog Devices; PartNumber: AD5781BRUZ; # DAC Outputs: 1; Max V+: 33V; Op Pwr Diss: 120mW; Resolution (Bits): 18; Settling Time: 1µs; Single Supply: No; DatasheetVersion: Rev.C; PackageVersion: 2000; PackageReference: RU-20; PackageDescription: 20-Lead Thin Shrink Small Outline Package [TSSOP]; Supplier 1: Digi-Key; Supplier Part Number 1: AD5781BRUZ-ND; Supplier 2: Farnell; Supplier Part Number 2: 1864682; Supplier 3: Newark; Supplier Part Number 3: 83R9357; Supplier 4: Mouser; Supplier Part Number 4: 584-AD5781BRUZ; Packing: Tube; RoHS: Y; Mounting Technology: Surface Mount; Code_JEDEC: MO-153AC; ComponentLink1Description: Manufacturer URL; ComponentLink1URL: http://www.analog.com/en/index.html; ComponentLink2Description: Datasheet; ComponentLink2URL: http://www.analog.com/static/imported-files/data_sheets/AD5781.pdf; ComponentLink3Description: Package Specification; ComponentLink3URL: http://www.analog.com/static/imported-files/packages/364515793657813558433715854054607941441RU20.pdf; ComponentLink4Description: Product URL; ComponentLink4URL: http://www.analog.com/en/digital-to-analog-converters/da-converters/ad5781/products/product.html
footprint RU-20_N (TSOP, 20-Leads, Body 6.5x4.4mm, Pitch 0.65mm, IPC Medium Density)
footprint RU-20_L (TSOP, 20-Leads, Body 6.5x4.4mm, Pitch 0.65mm, IPC High Density)
footprint RU-20_M (TSOP, 20-Leads, Body 6.5x4.4mm, Pitch 0.65mm, IPC Low Density)
pins: 1 INV "Connection to Inverting Input of External Amplifier. See the AD5781 Features section for further details.", 2 VOUT (hiz) "Analog Output Voltage.", 3 VREFPS (in) "Positive Reference Sense Voltage Input. A voltage range of 5 V to VDD - 2.5 V can be connected. A unity gain amplifier must be connected at this pin, in conjunction with the VREFPF pin. See the AD5781 Features section for (See Datasheet)", 4 VREFPF (in) "Positive Reference Force Voltage Input. A voltage range of 5 V to VDD - 2.5 V can be connected. A unity gain amplifier must be connected at these pin, in conjunction with the VREFPS pin. See AD5781 Features section for (See Datasheet)", 5 VDD (power) "Positive Analog Supply Connection. A voltage range of 7.5 V to 16.5 V can be connected. VDD should be decoupled to AGND.", 6 ~{RESET} (in) "Active Low Reset Logic Input Pin. Asserting this pin returns the AD5781 to its power-on status.", 7 ~{CLR} (in) "Active Low Clear Logic Input Pin. Asserting this pin sets the DAC register to a user defined value (see Table 13) and updates the DAC output. The output value depends on the DAC register coding that is being used, either (See Datasheet)", 8 ~{LDA}C (in) "Active Low Load DAC Logic Input Pin. This is used to update the DAC register and, consequently, the analog output. When tied permanently low, the output is updated on the rising edge of S\Y\N\C\. If L\D\A\C\ is held high (See Datasheet)", 9 VCC (power) "Digital Supply Connection. A voltage in the range of 2.7 V to 5.5 V can be connected. VCC should be decoupled to DGND.", 10 IOVCC (power) "Digital Interface Supply Pin. Digital threshold levels are referenced to the voltage applied to this pin. A voltage range of 1.71 V to 5.5 V can be connected. IOVCC should not be allowed to exceed VCC.", 11 SDO (hiz) "Serial Data Output Pin. Data is clocked out on the rising edge of the serial clock input.", 12 SDIN (in) "Serial Data Input Pin. This device has a 24-bit shift register. Data is clocked into the register on the falling edge of the serial clock input.", 13 SCLK (in) "Serial Clock Input. Data is clocked into the input shift register on the falling edge of the serial clock input. Data can be transferred at clock rates of up to 35 MHz.", 14 ~{SYNC} (in) "Active Low Digital Interface Synchronization Input Pin. This is the frame synchronization signal for the input data. When S\Y\N\C\ is low, it enables the input shift register, and data is then transferred in on the falling (See Datasheet)", 15 DGND (power) "Ground Reference Pin for Digital Circuitry.", 16 VREFNF (in) "Negative Reference Force Voltage Input. A voltage range of VSS + 2.5 V to 0 V can be connected. A unity gain amplifier must be connected at this pin, in conjunction with the VREFNS pin. See the AD5781 Features section for (See Datasheet)", 17 VREFNS (in) "Negative Reference Sense Voltage Input. A voltage range of VSS + 2.5 V to 0 V can be connected. A unity gain amplifier must be connected at these pin, in conjunction with the VREFNF pin. See the AD5781 Features section for (See Datasheet)", 18 VSS (power) "Negative Analog Supply Connection. A voltage range of -16.5 V to -2.5 V can be connected. VSS should be decoupled to AGND.", 19 AGND (power) "Ground Reference Pin for Analog Circuitry.", 20 RFB (in) "Feedback Connection for External Amplifier. See the AD5781 Features section for further details."